# EAGLE library part M25P40 (library Micron)
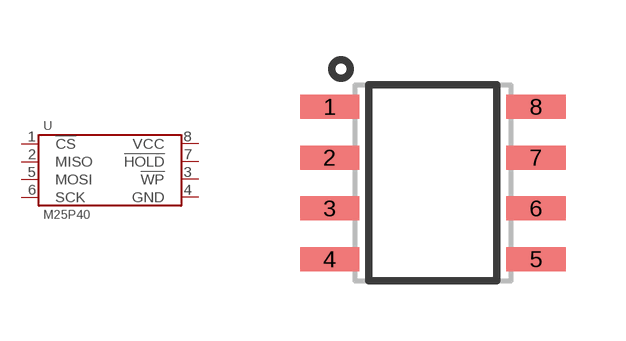
[diagram p1: symbol with the pads of SOIC-8; footprint SOIC-8]

Designator prefix U

## M25P40-VMN6PB  [SOIC-8]
1  !CS
2  MISO
3  !WP
4  GND
5  MOSI
6  SCK
7  !HOLD
8  VCC

## Footprint SOIC-8 (pad centres in mm)
smd 1.48 x 0.6: 1 -2.58,1.905; 2 -2.58,0.635; 3 -2.58,-0.635; 4 -2.58,-1.905; 5 2.58,-1.905; 6 2.58,-0.635; 7 2.58,0.635; 8 2.58,1.905